# EAGLE library part TPM-* (library traco-electronic)
DC/DC Konverter 10/15 Watt, 1 x Input, 2 x Output Suurce: http://www.tracopower.com/datasheet_g/tpm-d.pdf
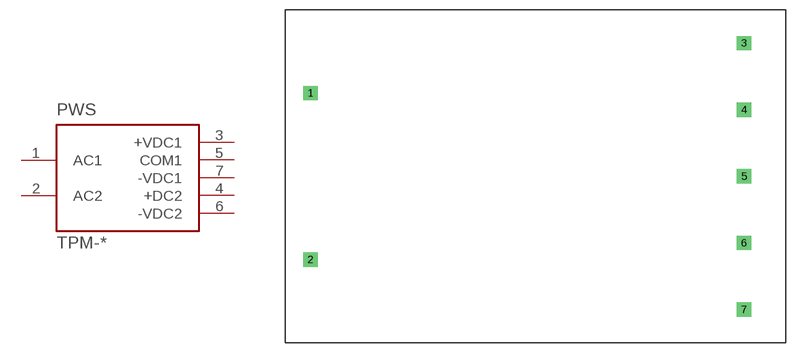
[diagram p2: symbol with the pads of 10515; footprint 10515]

Designator prefix PWS

## TPM-05212 (OC_FARNELL: unknown; OC_NEWARK: unknown), TPM-05215 (OC_FARNELL: unknown; OC_NEWARK: unknown)  [10515]
1  AC1  in
2  AC2  in
3  +VDC1  pas
4  +DC2  pas
5  COM1  pas
6  -VDC2  pas
7  -VDC1  pas

## Footprint 10515 (pad centres in mm)
drill 1.27 pad 2.184 square: 1 3.81,38.1; 2 3.81,12.7; 3 69.85,45.72; 4 69.85,35.56; 5 69.85,25.4; 6 69.85,15.24; 7 69.85,5.08